# EAGLE library part G2X[1/5]2---N20 (library TI_MSP430_v16)
MSP430G2X[1/5]2 MSP430G2x52, MSP430G2x12 PDIP (N) 20 Pin Package http://focus.ti.com/docs/prod/folders/print/msp430g2452.html
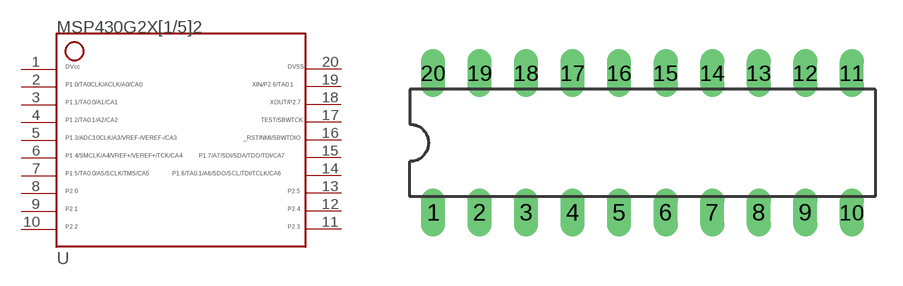
[diagram p136: symbol with the pads of DIL20; footprint DIL20]

Designator prefix -

## G2X[1/5]2---N20  [DIL20]
1  1_DVCC
2  2_1.0
3  3_1.1
4  4_1.2
5  5_1.3
6  6_1.4
7  7_1.5
8  8_2.0
9  9_2.1
10  10_2.2
11  11_2.3
12  12_2.4
13  13_2.5
14  14_1.6
15  15_1.7
16  16_RST
17  17_TEST
18  18_XOUT
19  19_XIN
20  20_DVSS

## Footprint DIL20 (pad centres in mm)
Dual In Line Package
drill 0.813 long: 1 -11.43,-3.81; 2 -8.89,-3.81; 3 -6.35,-3.81; 4 -3.81,-3.81; 5 -1.27,-3.81; 6 1.27,-3.81; 7 3.81,-3.81; 8 6.35,-3.81; 9 8.89,-3.81; 10 11.43,-3.81; 11 11.43,3.81; 12 8.89,3.81; 13 6.35,3.81; 14 3.81,3.81; 15 1.27,3.81; 16 -1.27,3.81; 17 -3.81,3.81; 18 -6.35,3.81; 19 -8.89,3.81; 20 -11.43,3.81